# Altium integrated library TPS7A9101DSKT.IntLib: 1 symbol
Pins are listed as number, name and electrical type; pins without a type are passive.

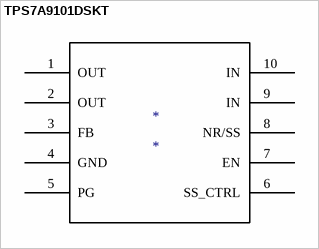
[diagram p0: symbol TPS7A9101DSKT]

## TPS7A9101DSKT
designator *
footprint TPS7A9101DSKT
pins: 1 OUT, 2 OUT, 3 FB, 4 GND, 5 PG, 6 SS_CTRL, 7 EN, 8 NR/SS, 9 IN, 10 IN